# EAGLE library part DW-TPS718 (library dw-TPS718)
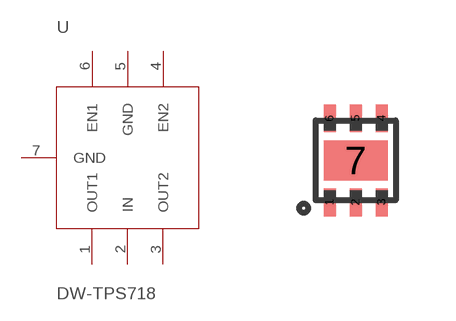
[diagram p0: symbol with the pads of TPS718; footprint TPS718]

Designator prefix -

## DW-TPS718  [TPS718]
1  OUT1
2  IN
3  OUT2
4  EN2
5  GND
6  EN1
7  GND

## Footprint TPS718 (pad centres in mm)
smd 0.3 x 0.7: 1 -0.65,-1.05; 2 0,-1.05; 3 0.65,-1.05; 4 0.65,1.05; 5 0,1.05; 6 -0.65,1.05
smd 1.6 x 1: 7 0,0